# Altium footprint library SSOP-24.PcbLib: 1 footprints
Each footprint in its own frame and in the unit in brackets; x right, y up, seen from the top. Pads: shape width x height; smd on the part's side, far side on the other; paste and mask are expansions set on the pad; w line width, h text height; cw(c..) or ccw(c..) is an arc to the next point about the centre after c.
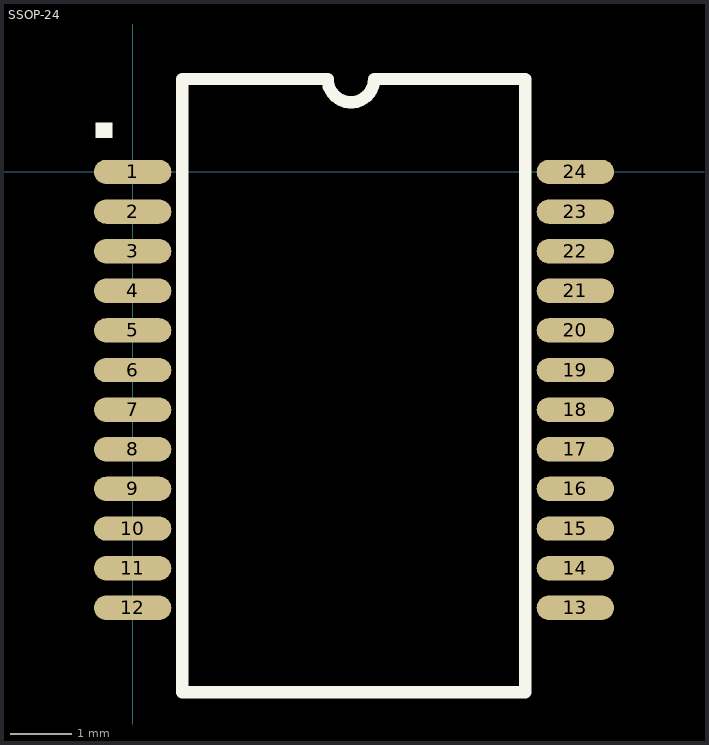
[diagram p0: the footprint, top view; thin cyan lines are the x and y axes]

## SSOP-24 [mm]
pads (24):
  oval 1.27x0.4 smd: 1(0,0) 2(0,-0.65) 3(0,-1.3) 4(0,-1.95) 5(0,-2.6) 6(0,-3.25) 7(0,-3.9) 8(0,-4.55) 9(0,-5.2) 10(0,-5.85) 11(0,-6.5) 12(0,-7.15) 13(7.264,-7.15) 14(7.264,-6.5) 15(7.264,-5.85) 16(7.264,-5.2) 17(7.264,-4.55) 18(7.264,-3.9) 19(7.264,-3.25) 20(7.264,-2.6) 21(7.264,-1.95) 22(7.264,-1.3) 23(7.264,-0.65) 24(7.264,0)
TopOverlay:
  rectangle: -0.61,0.559 -0.33,0.813
  lines w0.203: 0.813,-8.534 0.813,1.524 2.591,1.524 3.2,1.524 ccw(c3.581,1.524) 3.962,1.524 4.674,1.524 6.443,1.524 6.443,-8.534 0.813,-8.534
3D body: height 1.88, standoff -0.02, extent -0.308,-7.776 7.592,0.624